# Altium footprint library power.PcbLib: 1 footprints
Each footprint in its own frame and in the unit in brackets; x right, y up, seen from the top. Pads: shape width x height; smd on the part's side, far side on the other; paste and mask are expansions set on the pad; w line width, h text height; cw(c..) or ccw(c..) is an arc to the next point about the centre after c.
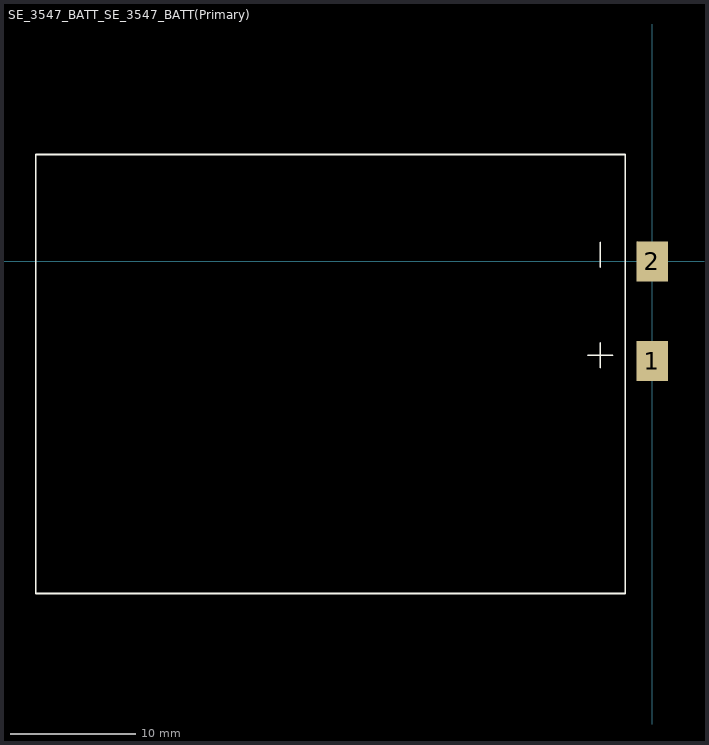
[diagram p0: the footprint, top view; thin cyan lines are the x and y axes]

## SE_3547_BATT_SE_3547_BATT(Primary) [mil]
pads (2):
  rect 100x125 smd: 1(0,-312.5) 2(0,0)
Top Overlay:
  lines w5.12: -202.66,-294.19 -123.92,-294.19 ; -163.29,-333.56 -163.29,-254.82 ; -163.29,-18.6 -163.29,60.14 ; -45.18,-372.93 -45.18,-254.82 ; -45.18,-57.97 -45.18,60.14 ; -1934.94,-1042.22 -1934.94,335.73 -84.55,335.73 -84.55,-1042.22 -1934.94,-1042.22